# EAGLE library part DPDT (library mb3_switches)
DPDT Switches
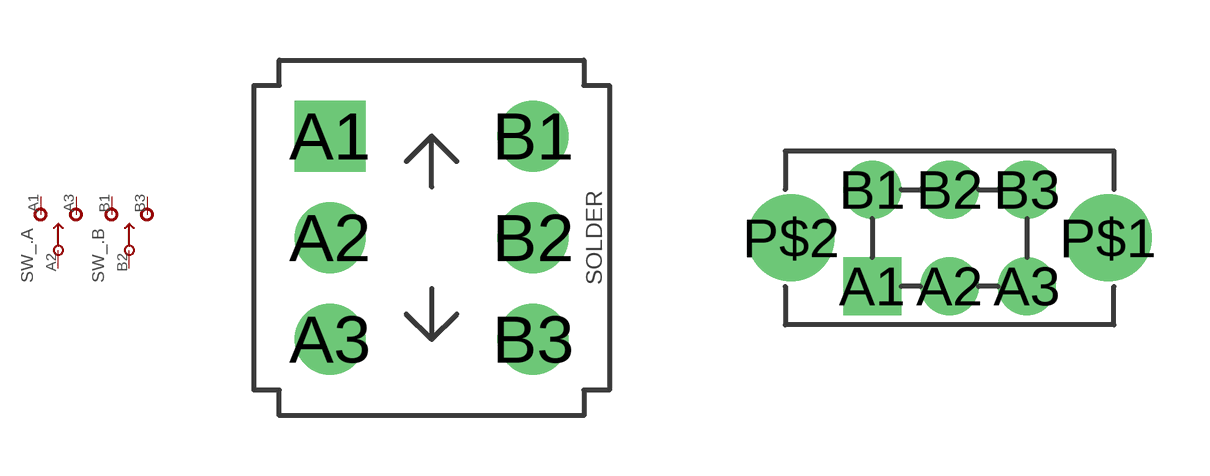
[diagram p8: symbol with the pads of DPDT.MINI2; footprints DPDT.MINI2, DPDT.SLIDE]

Designator prefix SW_; gates .A=SPDT .B=SPDT

## DPDT.MINI2  [DPDT.MINI2]
A1  .A:1  pas
A2  .A:2  pas
A3  .A:3  pas
B1  .B:1  pas
B2  .B:2  pas
B3  .B:3  pas

## DPDT.SLIDE  [DPDT.SLIDE]
Pads as for DPDT.MINI2

## DPDT.WIRE  [DPDT.WIRE]
Pads as for DPDT.MINI2

## DPDT.LUGS  [DPDT.LUGS]
Pads as for DPDT.MINI2

## DPDT.PINS  [DPDT.PINS]
Pads as for DPDT.MINI2

## DPDT.MINI1  [DPDT.MINI1]
Pads as for DPDT.MINI2

## Footprint DPDT.MINI2 (pad centres in mm)
Mini Toggle Switch, PC Mount Taiway 2MD1T1B1M2RE: http://smallbear-electronics.mybigcommerce.com/dpdt-on-on-sub-mini-pc-mount/
drill 1 pad 1.778 square: A1 -2.54,2.54
drill 1 pad 1.778: A2 -2.54,0; A3 -2.54,-2.54; B1 2.54,2.54; B2 2.54,0; B3 2.54,-2.54

## Footprint DPDT.SLIDE (pad centres in mm)
Slide Switch CK 0S202011MS2QN1: http://www.mouser.com/ProductDetail/CK-Components/0S202011MS2QN1/?qs=sGAEpiMZZMtHXLepoqNyVWY62gt1t1Lcq4sdpP5HA5g%3d
drill 1 square: A1 -2,-1.25
drill 1: A2 0,-1.25; A3 2,-1.25; B1 -2,1.25; B2 0,1.25; B3 2,1.25
drill 1.5: P$1 4.1,0; P$2 -4.1,0

## Footprint DPDT.WIRE (pad centres in mm)
Wire to switch
drill 1.2 pad 2.032 square: A1 -6.35,0
drill 1.2 pad 2.032: A2 -3.81,0; A3 -1.27,0; B1 1.27,0; B2 3.81,0; B3 6.35,0

## Footprint DPDT.LUGS (pad centres in mm)
Toggle Switch, Solder Lugs Taiway 1MD1T1B1C0M1QE: http://smallbear-electronics.mybigcommerce.com/dpdt-on-on-solder-term/
drill 2.4 square: A1 -2.413,4.834
drill 2.4: A2 -2.413,0.004; A3 -2.413,-4.826; B1 2.417,4.834; B2 2.417,0.004; B3 2.417,-4.826

## Footprint DPDT.PINS (pad centres in mm)
Toggle Switch, PC Mount Taiway 1MD1T1B1C0M2QE: http://smallbear-electronics.mybigcommerce.com/dpdt-on-on-pc-mount/
drill 1.6 square: A1 -2.413,4.834
drill 1.6: A2 -2.413,0.004; A3 -2.413,-4.826; B1 2.417,4.834; B2 2.417,0.004; B3 2.417,-4.826

## Footprint DPDT.MINI1 (pad centres in mm)
Mini Footswitch, PC Mount Alpha SF12011F-0202: http://smallbear-electronics.mybigcommerce.com/alpha-107-sf12011-l-dpdt/
drill 1.4 pad 2.184 square: A1 -2.5,4
drill 1.4 pad 2.184: A2 -2.5,0; A3 -2.5,-4; B1 2.5,4; B2 2.5,0; B3 2.5,-4